# Altium footprint library Package_TO_SOT_THT.PcbLib: 236 footprints (part 14 of 15)
Each footprint in its own frame and in the unit in brackets; x right, y up, seen from the top. Pads: shape width x height; smd on the part's side, far side on the other; paste and mask are expansions set on the pad; w line width, h text height; cw(c..) or ccw(c..) is an arc to the next point about the centre after c.
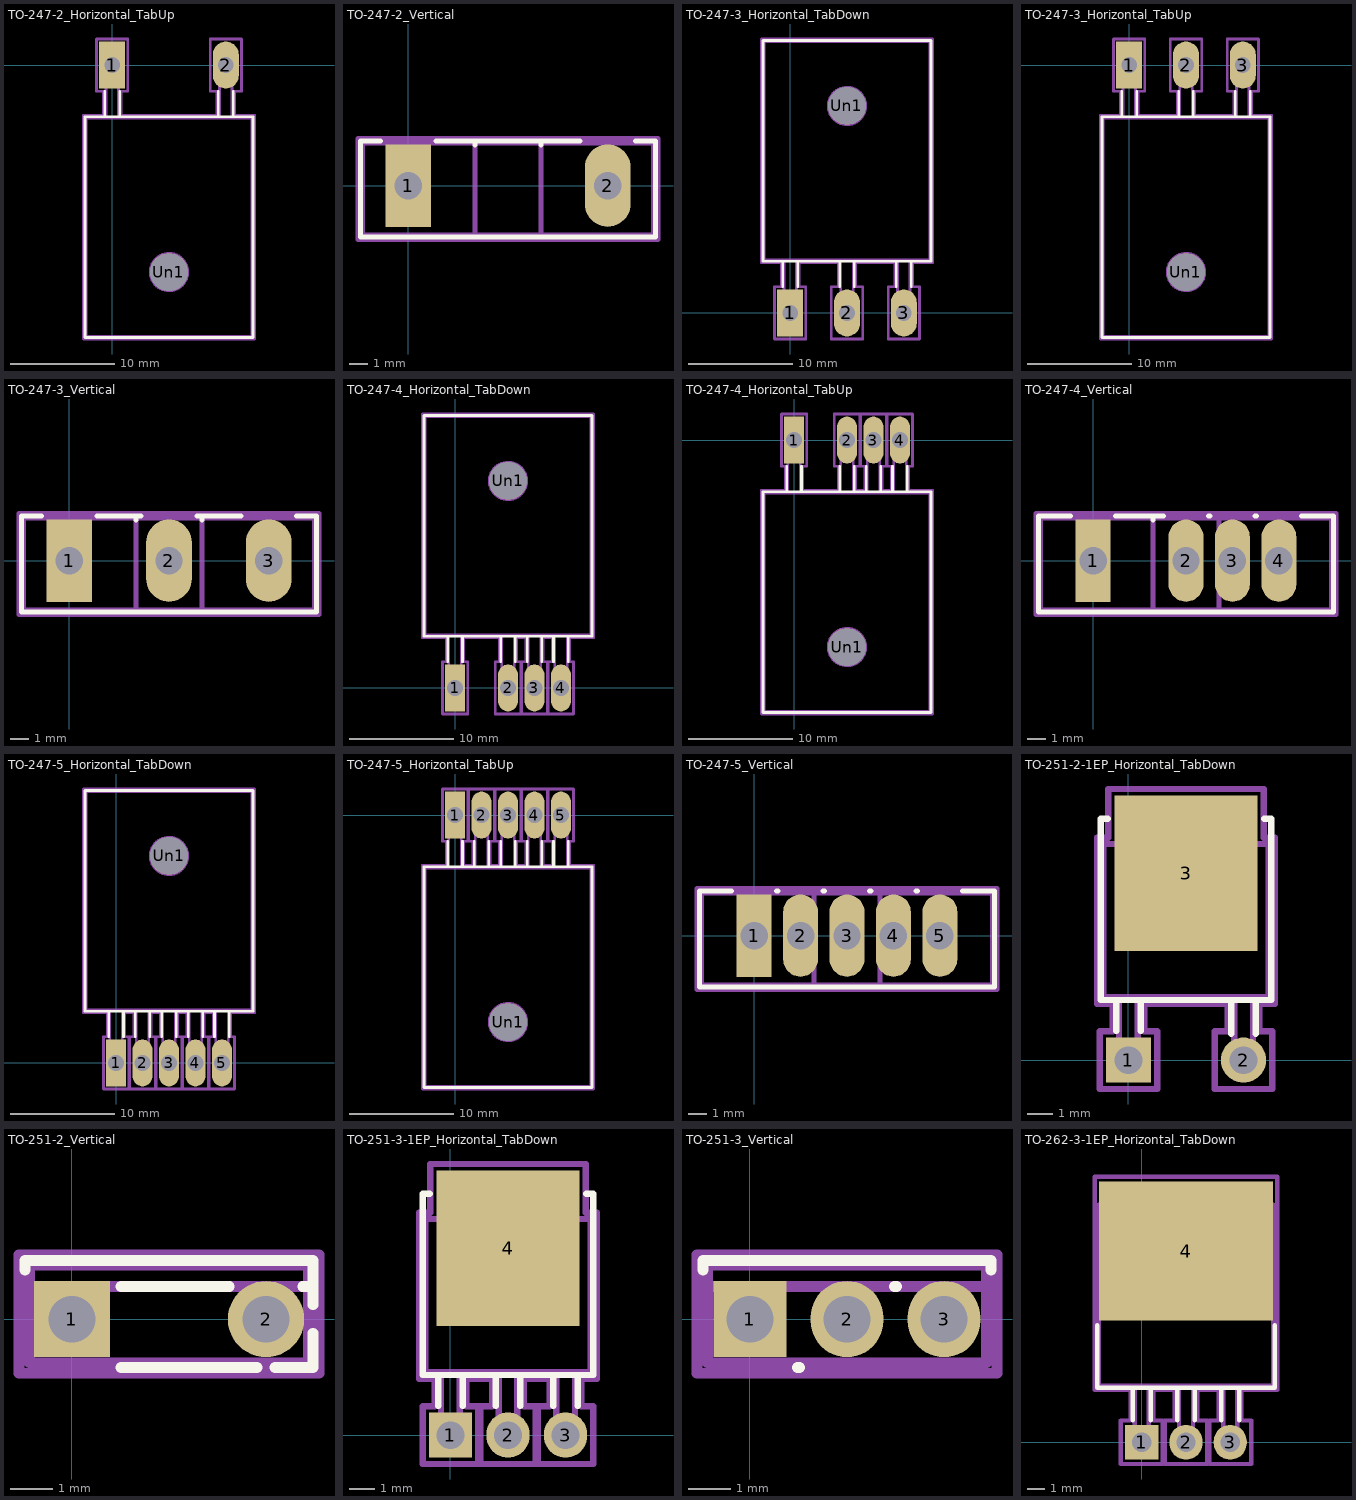
[diagram p13: the footprints below, top view; thin cyan lines are the x and y axes]

## TO-247-2_Horizontal_TabUp [mm]
pads (3):
  rect 2.5x4.5 hole 1.5: 1(0,0)
  rrect100% 2.5x4.5 hole 1.5: 2(10.9,0)
  round 3.6 hole 3.6: Un1(5.45,-19.86)
F.SilkS:
  lines w0.254: -0.71,-4.97 -0.71,-2.51 ; 0.71,-4.97 0.71,-2.51 ; 10.19,-4.97 10.19,-2.51 ; 11.61,-4.97 11.61,-2.51 ; -2.61,-26.14 13.51,-26.14 13.51,-4.97 -2.61,-4.97 -2.61,-26.14
F.Fab:
  circle w0.254: c5.45,-19.86 r1.805
  lines w0.254: -2.5,-26.03 13.4,-26.03 13.4,-5.08 -2.5,-5.08 -2.5,-26.03 ; -0.6,-5.08 0.6,-5.08 0.6,0 -0.6,0 -0.6,-5.08 ; 10.3,-5.08 11.5,-5.08 11.5,0 10.3,0 10.3,-5.08
  text "'.Designator'" at 1.403,-12.73 h1
F.CrtYd:
  lines w0.254: -2.75,-26.28 13.65,-26.28 13.65,-4.82 11.75,-4.82 11.75,-2.5 12.4,-2.5 12.4,2.5 9.4,2.5 9.4,-2.5 10.05,-2.5 10.05,-4.82 0.85,-4.82 0.85,-2.5 1.5,-2.5 1.5,2.5 -1.5,2.5 -1.5,-2.5 -0.85,-2.5 -0.85,-4.82 -2.75,-4.82 -2.75,-26.28

## TO-247-2_Vertical [mm]
pads (2):
  rect 2.5x4.5 hole 1.5: 1(0,0)
  rrect100% 2.5x4.5 hole 1.5: 2(10.9,0)
F.SilkS:
  lines w0.254: -1.51,2.44 -2.61,2.44 -2.61,-2.81 13.51,-2.81 13.51,2.44 12.41,2.44 ; 1.51,2.44 9.39,2.44 ; 3.645,2.22 3.645,2.44 ; 7.255,2.22 7.255,2.44
F.Fab:
  lines w0.254: 3.645,-2.7 3.645,2.33 ; 7.255,-2.7 7.255,2.33 ; -2.5,-2.7 -2.5,2.33 13.4,2.33 13.4,-2.7 -2.5,-2.7
  text "'.Designator'" at 1.403,-1.03 h1
F.CrtYd:
  lines w0.254: -2.75,-2.95 -2.75,2.58 13.65,2.58 13.65,-2.95 -2.75,-2.95
3D body "TO-247-2_Vertical.step": height 25.27, standoff -15.83, extent -2.5,-2.7 13.4,2.33

## TO-247-3_Horizontal_TabDown [mm]
pads (4):
  rect 2.5x4.5 hole 1.5: 1(0,0)
  rrect100% 2.5x4.5 hole 1.5: 2(5.45,0) 3(10.9,0)
  round 3.6 hole 3.6: Un1(5.45,19.86)
F.SilkS:
  lines w0.254: -0.71,2.51 -0.71,4.97 ; 0.71,2.51 0.71,4.97 ; 4.74,2.51 4.74,4.97 ; 6.16,2.51 6.16,4.97 ; 10.19,2.51 10.19,4.97 ; 11.61,2.51 11.61,4.97 ; -2.61,4.97 13.51,4.97 13.51,26.14 -2.61,26.14 -2.61,4.97
F.Fab:
  circle w0.254: c5.45,19.86 r1.805
  lines w0.254: -2.5,5.08 13.4,5.08 13.4,26.03 -2.5,26.03 -2.5,5.08 ; -0.6,0 0.6,0 0.6,5.08 -0.6,5.08 -0.6,0 ; 4.85,0 6.05,0 6.05,5.08 4.85,5.08 4.85,0 ; 10.3,0 11.5,0 11.5,5.08 10.3,5.08 10.3,0
  text "'.Designator'" at 1.403,11.05 h1
F.CrtYd:
  lines w0.254: -2.75,4.82 -0.85,4.82 -0.85,2.5 -1.5,2.5 -1.5,-2.5 1.5,-2.5 1.5,2.5 0.85,2.5 0.85,4.82 4.6,4.82 4.6,2.5 3.95,2.5 3.95,-2.5 6.95,-2.5 6.95,2.5 6.3,2.5 6.3,4.82 10.05,4.82 10.05,2.5 9.4,2.5 9.4,-2.5 12.4,-2.5 12.4,2.5 11.75,2.5 11.75,4.82 13.65,4.82 13.65,26.28 -2.75,26.28 -2.75,4.82

## TO-247-3_Horizontal_TabUp [mm]
pads (4):
  rect 2.5x4.5 hole 1.5: 1(0,0)
  rrect100% 2.5x4.5 hole 1.5: 2(5.45,0) 3(10.9,0)
  round 3.6 hole 3.6: Un1(5.45,-19.86)
F.SilkS:
  lines w0.254: -0.71,-4.97 -0.71,-2.51 ; 0.71,-4.97 0.71,-2.51 ; 4.74,-4.97 4.74,-2.51 ; 6.16,-4.97 6.16,-2.51 ; 10.19,-4.97 10.19,-2.51 ; 11.61,-4.97 11.61,-2.51 ; -2.61,-26.14 13.51,-26.14 13.51,-4.97 -2.61,-4.97 -2.61,-26.14
F.Fab:
  circle w0.254: c5.45,-19.86 r1.805
  lines w0.254: -2.5,-26.03 13.4,-26.03 13.4,-5.08 -2.5,-5.08 -2.5,-26.03 ; -0.6,-5.08 0.6,-5.08 0.6,0 -0.6,0 -0.6,-5.08 ; 4.85,-5.08 6.05,-5.08 6.05,0 4.85,0 4.85,-5.08 ; 10.3,-5.08 11.5,-5.08 11.5,0 10.3,0 10.3,-5.08
  text "'.Designator'" at 1.403,-12.73 h1
F.CrtYd:
  lines w0.254: -2.75,-26.28 13.65,-26.28 13.65,-4.82 11.75,-4.82 11.75,-2.5 12.4,-2.5 12.4,2.5 9.4,2.5 9.4,-2.5 10.05,-2.5 10.05,-4.82 6.3,-4.82 6.3,-2.5 6.95,-2.5 6.95,2.5 3.95,2.5 3.95,-2.5 4.6,-2.5 4.6,-4.82 0.85,-4.82 0.85,-2.5 1.5,-2.5 1.5,2.5 -1.5,2.5 -1.5,-2.5 -0.85,-2.5 -0.85,-4.82 -2.75,-4.82 -2.75,-26.28

## TO-247-3_Vertical [mm]
pads (3):
  rect 2.5x4.5 hole 1.5: 1(0,0)
  rrect100% 2.5x4.5 hole 1.5: 2(5.45,0) 3(10.9,0)
F.SilkS:
  lines w0.254: -1.51,2.44 -2.61,2.44 -2.61,-2.81 13.51,-2.81 13.51,2.44 12.41,2.44 ; 1.51,2.44 3.94,2.44 ; 3.645,2.22 3.645,2.44 ; 6.96,2.44 9.39,2.44 ; 7.255,2.22 7.255,2.44
F.Fab:
  lines w0.254: 3.645,-2.7 3.645,2.33 ; 7.255,-2.7 7.255,2.33 ; -2.5,-2.7 -2.5,2.33 13.4,2.33 13.4,-2.7 -2.5,-2.7
  text "'.Designator'" at 1.403,-1.03 h1
F.CrtYd:
  lines w0.254: -2.75,-2.95 -2.75,2.58 13.65,2.58 13.65,-2.95 -2.75,-2.95
3D body "TO-247-3_Vertical.step": height 25.27, standoff -15.83, extent -2.5,-2.33 13.4,2.7

## TO-247-4_Horizontal_TabDown [mm]
pads (5):
  rect 1.905x4.5 hole 1.5: 1(0,0)
  rrect100% 1.905x4.5 hole 1.5: 2(5.08,0) 3(7.62,0) 4(10.16,0)
  round 3.6 hole 3.6: Un1(5.08,19.86)
F.SilkS:
  lines w0.254: -0.71,2.51 -0.71,4.97 ; 0.71,2.51 0.71,4.97 ; 4.37,2.51 4.37,4.97 ; 5.79,2.51 5.79,4.97 ; 6.91,2.51 6.91,4.97 ; 8.33,2.51 8.33,4.97 ; 9.45,2.51 9.45,4.97 ; 10.87,2.51 10.87,4.97 ; -2.98,4.97 13.14,4.97 13.14,26.14 -2.98,26.14 -2.98,4.97
F.Fab:
  circle w0.254: c5.08,19.86 r1.805
  lines w0.254: -2.87,5.08 13.03,5.08 13.03,26.03 -2.87,26.03 -2.87,5.08 ; -0.6,0 0.6,0 0.6,5.08 -0.6,5.08 -0.6,0 ; 4.48,0 5.68,0 5.68,5.08 4.48,5.08 4.48,0 ; 7.02,0 8.22,0 8.22,5.08 7.02,5.08 7.02,0 ; 9.56,0 10.76,0 10.76,5.08 9.56,5.08 9.56,0
  text "'.Designator'" at 1.033,11.05 h1
F.CrtYd:
  lines w0.254: -3.12,4.82 -0.85,4.82 -0.85,2.5 -1.21,2.5 -1.21,-2.5 1.21,-2.5 1.21,2.5 0.85,2.5 0.85,4.82 4.23,4.82 4.23,2.5 3.87,2.5 3.87,-2.5 6.29,-2.5 6.29,2.5 5.93,2.5 5.93,4.82 6.77,4.82 6.77,2.5 6.41,2.5 6.41,-2.5 8.83,-2.5 8.83,2.5 8.47,2.5 8.47,4.82 9.31,4.82 9.31,2.5 8.95,2.5 8.95,-2.5 11.37,-2.5 11.37,2.5 11.01,2.5 11.01,4.82 13.28,4.82 13.28,26.28 -3.12,26.28 -3.12,4.82

## TO-247-4_Horizontal_TabUp [mm]
pads (5):
  rect 1.905x4.5 hole 1.5: 1(0,0)
  rrect100% 1.905x4.5 hole 1.5: 2(5.08,0) 3(7.62,0) 4(10.16,0)
  round 3.6 hole 3.6: Un1(5.08,-19.86)
F.SilkS:
  lines w0.254: -0.71,-4.97 -0.71,-2.51 ; 0.71,-4.97 0.71,-2.51 ; 4.37,-4.97 4.37,-2.51 ; 5.79,-4.97 5.79,-2.51 ; 6.91,-4.97 6.91,-2.51 ; 8.33,-4.97 8.33,-2.51 ; 9.45,-4.97 9.45,-2.51 ; 10.87,-4.97 10.87,-2.51 ; -2.98,-26.14 13.14,-26.14 13.14,-4.97 -2.98,-4.97 -2.98,-26.14
F.Fab:
  circle w0.254: c5.08,-19.86 r1.805
  lines w0.254: -2.87,-26.03 13.03,-26.03 13.03,-5.08 -2.87,-5.08 -2.87,-26.03 ; -0.6,-5.08 0.6,-5.08 0.6,0 -0.6,0 -0.6,-5.08 ; 4.48,-5.08 5.68,-5.08 5.68,0 4.48,0 4.48,-5.08 ; 7.02,-5.08 8.22,-5.08 8.22,0 7.02,0 7.02,-5.08 ; 9.56,-5.08 10.76,-5.08 10.76,0 9.56,0 9.56,-5.08
  text "'.Designator'" at 1.033,-12.73 h1
F.CrtYd:
  lines w0.254: -3.12,-26.28 13.28,-26.28 13.28,-4.82 11.01,-4.82 11.01,-2.5 11.37,-2.5 11.37,2.5 8.95,2.5 8.95,-2.5 9.31,-2.5 9.31,-4.82 8.47,-4.82 8.47,-2.5 8.83,-2.5 8.83,2.5 6.41,2.5 6.41,-2.5 6.77,-2.5 6.77,-4.82 5.93,-4.82 5.93,-2.5 6.29,-2.5 6.29,2.5 3.87,2.5 3.87,-2.5 4.23,-2.5 4.23,-4.82 0.85,-4.82 0.85,-2.5 1.21,-2.5 1.21,2.5 -1.21,2.5 -1.21,-2.5 -0.85,-2.5 -0.85,-4.82 -3.12,-4.82 -3.12,-26.28

## TO-247-4_Vertical [mm]
pads (4):
  rect 1.905x4.5 hole 1.5: 1(0,0)
  rrect100% 1.905x4.5 hole 1.5: 2(5.08,0) 3(7.62,0) 4(10.16,0)
F.SilkS:
  lines w0.254: -1.212,2.44 -2.98,2.44 -2.98,-2.81 13.14,-2.81 13.14,2.44 11.372,2.44 ; 1.212,2.44 3.868,2.44 ; 3.275,2.22 3.275,2.44 ; 6.292,2.44 6.407,2.44 ; 8.832,2.44 8.948,2.44
F.Fab:
  lines w0.254: 3.275,-2.7 3.275,2.33 ; 6.885,-2.7 6.885,2.33 ; -2.87,-2.7 -2.87,2.33 13.03,2.33 13.03,-2.7 -2.87,-2.7
  text "'.Designator'" at 1.033,-1.03 h1
F.CrtYd:
  lines w0.254: -3.12,-2.95 -3.12,2.58 13.28,2.58 13.28,-2.95 -3.12,-2.95
3D body "TO-247-4_Vertical.step": height 25.27, standoff -15.83, extent -2.5,-2.33 13.4,2.7

## TO-247-5_Horizontal_TabDown [mm]
pads (6):
  rect 1.905x4.5 hole 1.5: 1(0,0)
  rrect100% 1.905x4.5 hole 1.5: 2(2.54,0) 3(5.08,0) 4(7.62,0) 5(10.16,0)
  round 3.6 hole 3.6: Un1(5.08,19.86)
F.SilkS:
  lines w0.254: -0.71,2.51 -0.71,4.97 ; 0.71,2.51 0.71,4.97 ; 1.83,2.51 1.83,4.97 ; 3.25,2.51 3.25,4.97 ; 4.37,2.51 4.37,4.97 ; 5.79,2.51 5.79,4.97 ; 6.91,2.51 6.91,4.97 ; 8.33,2.51 8.33,4.97 ; 9.45,2.51 9.45,4.97 ; 10.87,2.51 10.87,4.97 ; -2.98,4.97 13.14,4.97 13.14,26.14 -2.98,26.14 -2.98,4.97
F.Fab:
  circle w0.254: c5.08,19.86 r1.805
  lines w0.254: -2.87,5.08 13.03,5.08 13.03,26.03 -2.87,26.03 -2.87,5.08 ; -0.6,0 0.6,0 0.6,5.08 -0.6,5.08 -0.6,0 ; 1.94,0 3.14,0 3.14,5.08 1.94,5.08 1.94,0 ; 4.48,0 5.68,0 5.68,5.08 4.48,5.08 4.48,0 ; 7.02,0 8.22,0 8.22,5.08 7.02,5.08 7.02,0 ; 9.56,0 10.76,0 10.76,5.08 9.56,5.08 9.56,0
  text "'.Designator'" at 1.033,11.05 h1
F.CrtYd:
  lines w0.254: -3.12,4.82 -0.85,4.82 -0.85,2.5 -1.21,2.5 -1.21,-2.5 1.21,-2.5 1.21,2.5 0.85,2.5 0.85,4.82 1.69,4.82 1.69,2.5 1.33,2.5 1.33,-2.5 3.75,-2.5 3.75,2.5 3.39,2.5 3.39,4.82 4.23,4.82 4.23,2.5 3.87,2.5 3.87,-2.5 6.29,-2.5 6.29,2.5 5.93,2.5 5.93,4.82 6.77,4.82 6.77,2.5 6.41,2.5 6.41,-2.5 8.83,-2.5 8.83,2.5 8.47,2.5 8.47,4.82 9.31,4.82 9.31,2.5 8.95,2.5 8.95,-2.5 11.37,-2.5 11.37,2.5 11.01,2.5 11.01,4.82 13.28,4.82 13.28,26.28 -3.12,26.28 -3.12,4.82

## TO-247-5_Horizontal_TabUp [mm]
pads (6):
  rect 1.905x4.5 hole 1.5: 1(0,0)
  rrect100% 1.905x4.5 hole 1.5: 2(2.54,0) 3(5.08,0) 4(7.62,0) 5(10.16,0)
  round 3.6 hole 3.6: Un1(5.08,-19.86)
F.SilkS:
  lines w0.254: -0.71,-4.97 -0.71,-2.51 ; 0.71,-4.97 0.71,-2.51 ; 1.83,-4.97 1.83,-2.51 ; 3.25,-4.97 3.25,-2.51 ; 4.37,-4.97 4.37,-2.51 ; 5.79,-4.97 5.79,-2.51 ; 6.91,-4.97 6.91,-2.51 ; 8.33,-4.97 8.33,-2.51 ; 9.45,-4.97 9.45,-2.51 ; 10.87,-4.97 10.87,-2.51 ; -2.98,-26.14 13.14,-26.14 13.14,-4.97 -2.98,-4.97 -2.98,-26.14
F.Fab:
  circle w0.254: c5.08,-19.86 r1.805
  lines w0.254: -2.87,-26.03 13.03,-26.03 13.03,-5.08 -2.87,-5.08 -2.87,-26.03 ; -0.6,-5.08 0.6,-5.08 0.6,0 -0.6,0 -0.6,-5.08 ; 1.94,-5.08 3.14,-5.08 3.14,0 1.94,0 1.94,-5.08 ; 4.48,-5.08 5.68,-5.08 5.68,0 4.48,0 4.48,-5.08 ; 7.02,-5.08 8.22,-5.08 8.22,0 7.02,0 7.02,-5.08 ; 9.56,-5.08 10.76,-5.08 10.76,0 9.56,0 9.56,-5.08
  text "'.Designator'" at 1.033,-12.73 h1
F.CrtYd:
  lines w0.254: -3.12,-26.28 13.28,-26.28 13.28,-4.82 11.01,-4.82 11.01,-2.5 11.37,-2.5 11.37,2.5 8.95,2.5 8.95,-2.5 9.31,-2.5 9.31,-4.82 8.47,-4.82 8.47,-2.5 8.83,-2.5 8.83,2.5 6.41,2.5 6.41,-2.5 6.77,-2.5 6.77,-4.82 5.93,-4.82 5.93,-2.5 6.29,-2.5 6.29,2.5 3.87,2.5 3.87,-2.5 4.23,-2.5 4.23,-4.82 3.39,-4.82 3.39,-2.5 3.75,-2.5 3.75,2.5 1.33,2.5 1.33,-2.5 1.69,-2.5 1.69,-4.82 0.85,-4.82 0.85,-2.5 1.21,-2.5 1.21,2.5 -1.21,2.5 -1.21,-2.5 -0.85,-2.5 -0.85,-4.82 -3.12,-4.82 -3.12,-26.28

## TO-247-5_Vertical [mm]
pads (5):
  rect 1.905x4.5 hole 1.5: 1(0,0)
  rrect100% 1.905x4.5 hole 1.5: 2(2.54,0) 3(5.08,0) 4(7.62,0) 5(10.16,0)
F.SilkS:
  lines w0.254: -1.212,2.44 -2.98,2.44 -2.98,-2.81 13.14,-2.81 13.14,2.44 11.372,2.44 ; 1.212,2.44 1.328,2.44 ; 3.753,2.44 3.868,2.44 ; 6.293,2.44 6.408,2.44 ; 8.832,2.44 8.948,2.44
F.Fab:
  lines w0.254: 3.275,-2.7 3.275,2.33 ; 6.885,-2.7 6.885,2.33 ; -2.87,-2.7 -2.87,2.33 13.03,2.33 13.03,-2.7 -2.87,-2.7
  text "'.Designator'" at 1.033,-1.03 h1
F.CrtYd:
  lines w0.254: -3.12,-2.95 -3.12,2.58 13.28,2.58 13.28,-2.95 -3.12,-2.95
3D body "TO-247-5_Vertical.step": height 25.27, standoff -15.83, extent -2.5,-2.33 13.4,2.7

## TO-251-2-1EP_Horizontal_TabDown [mm]
pads (3):
  rect 1.8x1.8 hole 1.1: 1(0,0)
  round 1.8 hole 1.1: 2(4.58,0)
  rect 5.7x6.2 smd: 3(2.29,7.433)
F.SilkS:
  lines w0.254: -0.82,9.61 -1.11,9.61 -1.11,2.39 5.69,2.39 5.69,9.61 5.4,9.61 ; -0.485,1.16 -0.485,2.39 ; 0.485,1.16 0.485,2.39 ; 4.095,1.054 4.095,2.39 ; 5.065,1.054 5.065,2.39
F.Fab:
  lines w0.254: -1,2.5 5.58,2.5 5.58,8.6 -1,8.6 -1,2.5 ; -0.38,8.6 4.96,8.6 4.96,9.5 -0.38,9.5 -0.38,8.6 ; -0.375,0 0.375,0 0.375,2.5 -0.375,2.5 -0.375,0 ; 4.205,0 4.955,0 4.955,2.5 4.205,2.5 4.205,0
  text "'.Designator'" at -1.757,3.98 h1
F.CrtYd:
  lines w0.254: -1.25,2.25 -0.63,2.25 -0.63,1.15 -1.15,1.15 -1.15,-1.15 1.15,-1.15 1.15,1.15 0.63,1.15 0.63,2.25 3.95,2.25 3.95,1.15 3.43,1.15 3.43,-1.15 5.73,-1.15 5.73,1.15 5.21,1.15 5.21,2.25 5.83,2.25 5.83,8.85 5.39,8.85 5.39,10.79 -0.81,10.79 -0.81,8.85 -1.25,8.85 -1.25,2.25

## TO-251-2_Vertical [mm]
pads (2):
  rect 1.8x1.8 hole 1.1: 1(0,0)
  round 1.8 hole 1.1: 2(4.58,0)
F.SilkS:
  lines w0.254: -1.11,1.16 -1.11,1.38 5.69,1.38 5.69,0.337 ; 1.16,-1.14 4.366,-1.14 ; 1.16,0.77 3.712,0.77 ; 4.794,-1.14 5.69,-1.14 5.69,-0.337 ; 5.448,0.77 5.69,0.77
F.Fab:
  lines w0.254: -1,0.77 5.58,0.77 ; -1,-1.03 -1,1.27 5.58,1.27 5.58,-1.03 -1,-1.03
  text "'.Designator'" at -1.757,-0.72 h1
F.CrtYd:
  lines w0.254: -1.25,-1.28 -1.25,1.52 5.83,1.52 5.83,-1.28 -1.25,-1.28
3D body "TO-251-2_Vertical.step": height 8.93, standoff -7.33, extent -0.998,-1.03 5.577,1.28

## TO-251-3-1EP_Horizontal_TabDown [mm]
pads (4):
  rect 1.717x1.8 hole 1.1: 1(0,0)
  rrect100% 1.717x1.8 hole 1.1: 2(2.29,0) 3(4.58,0)
  rect 5.7x6.2 smd: 4(2.29,7.433)
F.SilkS:
  lines w0.254: -0.82,9.61 -1.11,9.61 -1.11,2.39 5.69,2.39 5.69,9.61 5.4,9.61 ; -0.485,1.16 -0.485,2.39 ; 0.485,1.16 0.485,2.39 ; 1.805,1.16 1.805,2.39 ; 2.775,1.16 2.775,2.39 ; 4.095,1.16 4.095,2.39 ; 5.065,1.16 5.065,2.39
F.Fab:
  lines w0.254: -1,2.5 5.58,2.5 5.58,8.6 -1,8.6 -1,2.5 ; -0.38,8.6 4.96,8.6 4.96,9.5 -0.38,9.5 -0.38,8.6 ; -0.375,0 0.375,0 0.375,2.5 -0.375,2.5 -0.375,0 ; 1.915,0 2.665,0 2.665,2.5 1.915,2.5 1.915,0 ; 4.205,0 4.955,0 4.955,2.5 4.205,2.5 4.205,0
  text "'.Designator'" at -1.757,3.98 h1
F.CrtYd:
  lines w0.254: -1.25,2.25 -0.63,2.25 -0.63,1.15 -1.11,1.15 -1.11,-1.15 1.11,-1.15 1.11,1.15 0.63,1.15 0.63,2.25 1.66,2.25 1.66,1.15 1.18,1.15 1.18,-1.15 3.4,-1.15 3.4,1.15 2.92,1.15 2.92,2.25 3.95,2.25 3.95,1.15 3.47,1.15 3.47,-1.15 5.69,-1.15 5.69,1.15 5.21,1.15 5.21,2.25 5.83,2.25 5.83,8.85 5.39,8.85 5.39,10.79 -0.81,10.79 -0.81,8.85 -1.25,8.85 -1.25,2.25

## TO-251-3_Vertical [mm]
pads (3):
  rect 1.717x1.8 hole 1.1: 1(0,0)
  rrect100% 1.717x1.8 hole 1.1: 2(2.29,0) 3(4.58,0)
F.SilkS:
  lines w0.254: -1.11,1.16 -1.11,1.38 5.69,1.38 5.69,1.16 ; 1.119,-1.14 1.171,-1.14 ; 3.409,0.77 3.461,0.77
F.Fab:
  lines w0.254: -1,0.77 5.58,0.77 ; -1,-1.03 -1,1.27 5.58,1.27 5.58,-1.03 -1,-1.03
  text "'.Designator'" at -1.757,-0.72 h1
F.CrtYd:
  lines w0.254: -1.25,-1.28 -1.25,1.52 5.83,1.52 5.83,-1.28 -1.25,-1.28

## TO-262-3-1EP_Horizontal_TabDown [mm]
pads (4):
  rect 1.905x2 hole 1.1: 1(0,0)
  rrect100% 1.905x2 hole 1.1: 2(2.54,0) 3(5.08,0)
  rect 10x8 smd: 4(2.54,10.983)
F.SilkS:
  lines w0.254: -2.57,6.723 -2.57,3.14 7.65,3.14 7.65,6.723 ; -0.51,1.26 -0.51,3.14 ; 0.51,1.26 0.51,3.14 ; 2.03,1.26 2.03,3.14 ; 3.05,1.26 3.05,3.14 ; 4.57,1.26 4.57,3.14 ; 5.59,1.26 5.59,3.14
F.Fab:
  lines w0.254: -2.46,12.45 -2.46,13.65 7.54,13.65 7.54,12.45 ; -2.46,12.45 7.54,12.45 ; -2.46,12.45 -2.46,3.25 7.54,3.25 7.54,12.45 ; -2.46,12.45 7.54,12.45 ; -0.4,0 -0.4,3.25 0.4,3.25 0.4,0 -0.4,0 ; 2.14,0 2.14,3.25 2.94,3.25 2.94,0 2.14,0 ; 4.68,0 4.68,3.25 5.48,3.25 5.48,0 4.68,0
  text "'.Designator'" at -1.507,6.16 h1
F.CrtYd:
  lines w0.254: -2.71,3 -2.71,15.24 7.79,15.24 7.79,3 5.73,3 5.73,1.25 6.29,1.25 6.29,-1.25 3.87,-1.25 3.87,1.25 4.43,1.25 4.43,3 3.19,3 3.19,1.25 3.75,1.25 3.75,-1.25 1.33,-1.25 1.33,1.25 1.89,1.25 1.89,3 0.65,3 0.65,1.25 1.21,1.25 1.21,-1.25 -1.21,-1.25 -1.21,1.25 -0.65,1.25 -0.65,3 -2.71,3